# Altium footprint library Connector.PcbLib: 45 footprints (part 1 of 3)
Each footprint in its own frame and in the unit in brackets; x right, y up, seen from the top. Pads: shape width x height; smd on the part's side, far side on the other; paste and mask are expansions set on the pad; w line width, h text height; cw(c..) or ccw(c..) is an arc to the next point about the centre after c.
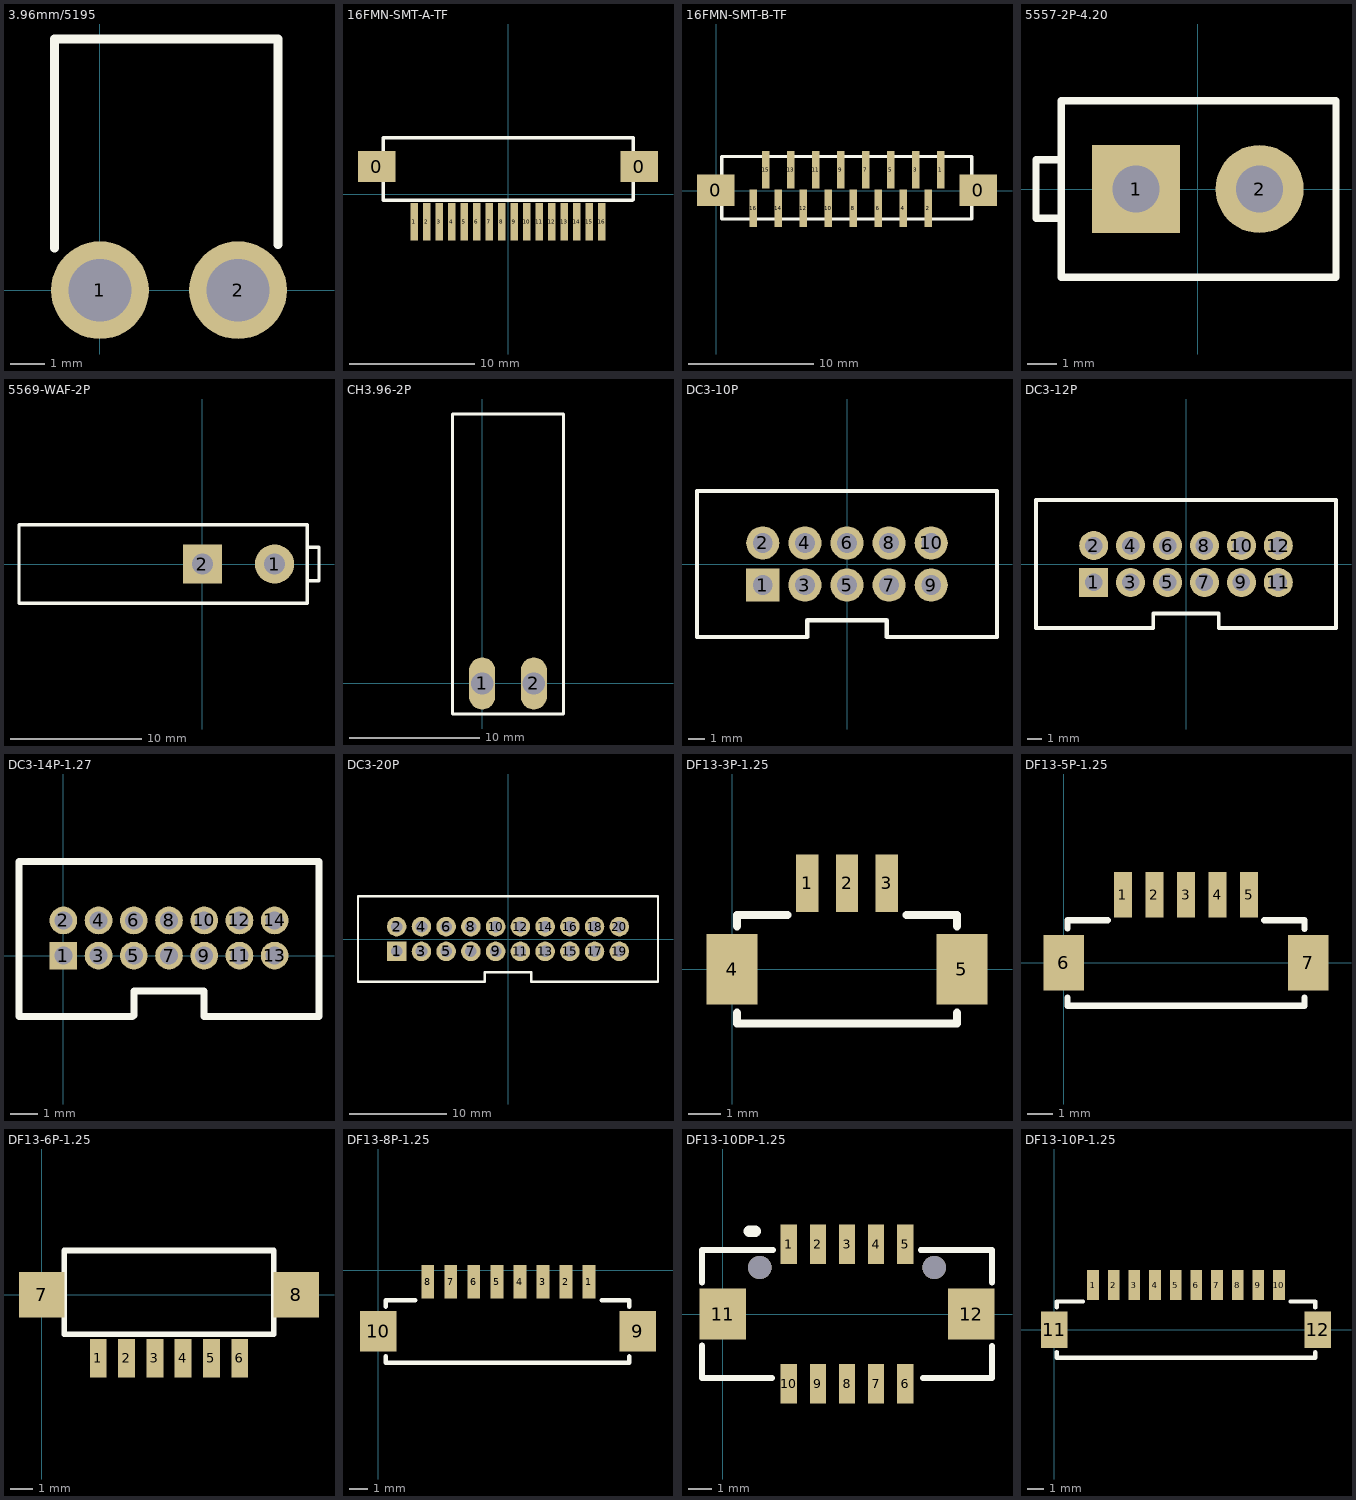
[diagram p0: the footprints below, top view; thin cyan lines are the x and y axes]

## 3.96mm/5195 [mm]
pads (2):
  round 2.8 hole 1.8: 1(0,0) 2(3.96,0)
Top Overlay:
  lines w0.254: -1.3,1.2 -1.3,7.2 0,7.2 3.96,7.2 5.1,7.2 5.1,1.3

## 16FMN-SMT-A-TF [mm]
pads (18):
  rect 3x2.5 smd: 0(-10.5,2.201) 0(10.5,2.201)
  rect 0.6x3 smd: 1(-7.485,-2.201) 2(-6.485,-2.201) 3(-5.485,-2.201) 4(-4.485,-2.201) 5(-3.485,-2.201) 6(-2.485,-2.201) 7(-1.485,-2.201) 8(-0.485,-2.201) 9(0.515,-2.201) 10(1.515,-2.201) 11(2.515,-2.201) 12(3.515,-2.201) 13(4.515,-2.201) 14(5.515,-2.201) 15(6.515,-2.201) 16(7.515,-2.201)
Top Overlay:
  lines w0.254: -10,-0.499 9.964,-0.499 ; -9.985,-0.486 -9.985,4.505 ; -9.975,4.505 10.015,4.505 10.015,-0.486

## 16FMN-SMT-B-TF [mm]
pads (18):
  rect 3x2.5 smd: 0(-0.035,0.06) 0(20.965,0.06)
  rect 0.6x3 smd: 1(17.95,1.693) 2(16.95,-1.381) 3(15.95,1.693) 4(14.95,-1.381) 5(13.95,1.693) 6(12.95,-1.381) 7(11.95,1.693) 8(10.95,-1.381) 9(9.95,1.693) 10(8.95,-1.381) 11(7.95,1.693) 12(6.95,-1.381) 13(5.95,1.693) 14(4.95,-1.381) 15(3.95,1.693) 16(2.95,-1.381)
Top Overlay:
  lines w0.254: 0.45,2.747 0.45,-2.244 20.439,-2.244 ; 0.5,2.76 20.465,2.76 ; 20.45,-2.244 20.45,2.747

## 5557-2P-4.20 [mm]
pads (2):
  rect 3x3 hole 1.6: 1(-2.1,0)
  round 3 hole 1.6: 2(2.1,0)
Top Overlay:
  lines w0.254: -4.64,-1 -5.5,-1 -5.5,1 -4.64,1 ; -4.64,-3 4.7,-3 4.7,3 -4.64,3 -4.64,-3

## 5569-WAF-2P [mm]
pads (2):
  round 3 hole 1.6: 1(5.5,0)
  rect 3x3 hole 1.6: 2(0,0)
Top Overlay:
  lines w0.254: 8,-3 8,3 -14,3 -14,-3 8.001,-3 ; 8,-1.27 8.89,-1.27 8.89,1.27 8,1.27

## CH3.96-2P [mm]
pads (2):
  oval 2x4 hole 1.7: 1(0,0) 2(3.96,0)
Top Overlay:
  lines w0.254: -2.27,-2.34 -2.27,20.66 6.23,20.66 6.23,-2.34 -2.27,-2.34

## DC3-10P [mm] "Connector; Header; 5x2 Position"
pads (10):
  rect 2x2 hole 1.2: 1(-5.08,-1.27)
  round 2 hole 1.2: 2(-5.08,1.27) 3(-2.54,-1.27) 4(-2.54,1.27) 5(0,-1.27) 6(0,1.27) 7(2.54,-1.27) 8(2.54,1.27) 9(5.08,-1.27) 10(5.08,1.27)
Top Overlay:
  lines w0.254: -9.05,-4.4 -2.4,-4.4 -2.4,-3.4 2.4,-3.4 2.4,-4.4 9.05,-4.4 9.05,4.4 -9.05,4.4 -9.05,-4.4

## DC3-12P [mm]
height 1.524
pads (12):
  rect 2x2 hole 1.2: 1(-6.35,-1.27)
  round 2 hole 1.2: 2(-6.35,1.27) 3(-3.81,-1.27) 4(-3.81,1.27) 5(-1.27,-1.27) 6(-1.27,1.27) 7(1.27,-1.27) 8(1.27,1.27) 9(3.81,-1.27) 10(3.81,1.27) 11(6.35,-1.27) 12(6.35,1.27)
Top Overlay:
  lines w0.254: -10.32,-4.4 -10.32,4.4 10.32,4.4 10.32,-4.4 2.25,-4.4 2.25,-3.4 -2.25,-3.4 -2.25,-4.4 -10.32,-4.4

## DC3-14P-1.27 [mm]
pads (14):
  rect 1x1 hole 0.65: 1(0,0)
  round 1 hole 0.65: 2(0,1.27) 3(1.27,0) 4(1.27,1.27) 5(2.54,0) 6(2.54,1.27) 7(3.81,0) 8(3.81,1.27) 9(5.08,0) 10(5.08,1.27) 11(6.35,0) 12(6.35,1.27) 13(7.62,0) 14(7.62,1.27)
Top Overlay:
  lines w0.254: -1.6,-2.2 -1.6,3.4 9.22,3.4 9.22,-2.2 5.08,-2.2 5.08,-1.27 2.54,-1.27 2.54,-2.159 2.499,-2.2 2.376,-2.2 -1.6,-2.2

## DC3-20P [mm] "Connector; Header; 10x2 Position"
pads (20):
  rect 2x2 hole 1.2: 1(-11.43,-1.27)
  round 2 hole 1.2: 2(-11.43,1.27) 3(-8.89,-1.27) 4(-8.89,1.27) 5(-6.35,-1.27) 6(-6.35,1.27) 7(-3.81,-1.27) 8(-3.81,1.27) 9(-1.27,-1.27) 10(-1.27,1.27) 11(1.27,-1.27) 12(1.27,1.27) 13(3.81,-1.27) 14(3.81,1.27) 15(6.35,-1.27) 16(6.35,1.27) 17(8.89,-1.27) 18(8.89,1.27) 19(11.43,-1.27) 20(11.43,1.27)
Top Overlay:
  lines w0.254: -15.4,-4.4 -15.4,4.4 15.4,4.4 15.4,-4.4 2.4,-4.4 2.4,-3.4 -2.4,-3.4 -2.4,-4.4 -15.4,-4.4

## DF13-3P-1.25 [mm] "DF13-3P-1.25V"
pads (5):
  rect 0.7x1.8 smd: 1(2.35,2.7) 2(3.6,2.7) 3(4.85,2.7)
  rect 1.6x2.2 smd: 4(0,0) 5(7.2,0)
Top Overlay:
  lines w0.254: 0.15,-1.36 0.15,-1.7 7.05,-1.7 7.05,-1.36 ; 0.15,1.35 0.15,1.7 1.73,1.7 ; 5.47,1.7 7.05,1.7 7.05,1.35

## DF13-5P-1.25 [mm] "DF13-5P-1.25V"
pads (7):
  rect 0.7x1.8 smd: 1(2.35,2.7) 2(3.6,2.7) 3(4.85,2.7) 4(6.1,2.7) 5(7.35,2.7)
  rect 1.6x2.2 smd: 6(0,0) 7(9.7,0)
Top Overlay:
  lines w0.254: 0.15,-1.38 0.15,-1.7 9.55,-1.7 9.55,-1.37 ; 0.15,1.37 0.15,1.7 1.74,1.7 ; 7.96,1.7 9.55,1.7 9.55,1.36

## DF13-6P-1.25 [mm]
pads (8):
  rect 0.75x1.7 smd: 1(2.5,-2.809) 2(3.75,-2.809) 3(5,-2.809) 4(6.25,-2.809) 5(7.5,-2.809) 6(8.75,-2.809)
  rect 2x2 smd: 7(0,0) 8(11.25,0)
Top Overlay:
  lines w0.254: 1,-1.752 1,1.948 10.25,1.948 10.25,-1.752 1,-1.752

## DF13-8P-1.25 [mm]
pads (10):
  rect 0.7x1.8 smd: 1(11.43,-0.635) 2(10.18,-0.635) 3(8.93,-0.635) 4(7.68,-0.635) 5(6.43,-0.635) 6(5.18,-0.635) 7(3.93,-0.635) 8(2.68,-0.635)
  rect 2x2.2 smd: 9(14.086,-3.335) 10(-0.011,-3.335)
Top Overlay:
  lines w0.254: 0.393,-4.685 0.393,-5.035 13.63,-5.035 13.63,-4.695 ; 0.393,-1.975 0.393,-1.635 1.993,-1.635 ; 12.13,-1.635 13.63,-1.635 13.63,-1.995

## DF13-10DP-1.25 [mm] "DF13C-10DP-1.25V"
pads (12):
  rect 0.7x1.7 smd: 1(2.85,3) 2(4.1,3) 3(5.35,3) 4(6.6,3) 5(7.85,3) 6(7.85,-3) 7(6.6,-3) 8(5.35,-3) 9(4.1,-3) 10(2.85,-3)
  rect 2x2.2 smd: 11(0,0) 12(10.7,0)
via 1.6,2 diameter 1 hole 1
via 9.1,2 diameter 1 hole 1
Top Overlay:
  lines w0.254: -0.88,-1.35 -0.88,-2.75 2.12,-2.75 ; -0.88,1.35 -0.88,2.75 2.17,2.75 ; 8.52,2.75 11.58,2.75 11.58,1.35 ; 8.62,-2.75 11.58,-2.75 11.58,-1.37
  lines w0.5: 1.143,3.556 1.397,3.556

## DF13-10P-1.25 [mm]
pads (12):
  rect 0.7x1.8 smd: 1(2.35,2.7) 2(3.6,2.7) 3(4.85,2.7) 4(6.1,2.7) 5(7.35,2.7) 6(8.6,2.7) 7(9.85,2.7) 8(11.1,2.7) 9(12.35,2.7) 10(13.6,2.7)
  rect 1.6x2.2 smd: 11(0,0) 12(15.95,0)
Top Overlay:
  lines w0.254: 0.15,-1.35 0.15,-1.7 15.8,-1.7 15.8,-1.36 ; 0.15,1.36 0.15,1.7 1.75,1.7 ; 14.3,1.7 15.8,1.7 15.8,1.34